# EAGLE library part 8 (library con)
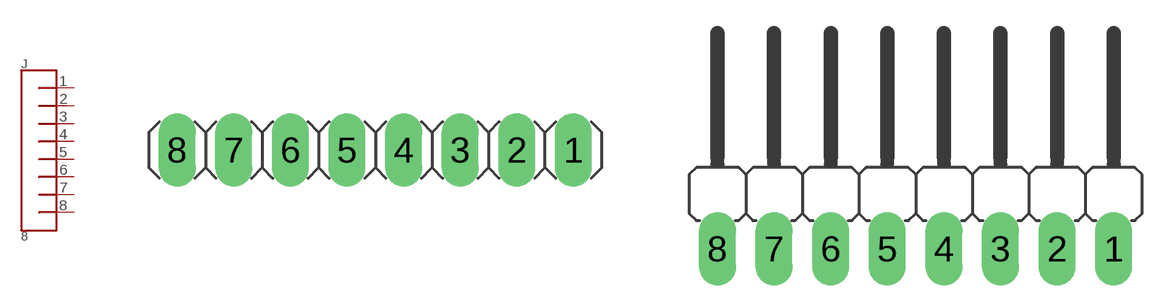
[diagram p1: symbol with the pads of CV8; footprints CV8, CV8W]

Designator prefix J

## 8-CV  [CV8]
1  1
2  2
3  3
4  4
5  5
6  6
7  7
8  8

## 8-CVW  [CV8W]
Pads as for CV8

## 8-CV_X2  [CV4X2]
Pads as for CV8

## Footprint CV8 (pad centres in mm)
drill 1.1 long: 1 8.89,0; 2 6.35,0; 3 3.81,0; 4 1.27,0; 5 -1.27,0; 6 -3.81,0; 7 -6.35,0; 8 -8.89,0

## Footprint CV8W (pad centres in mm)
drill 1.1 long: 1 8.89,0; 2 6.35,0; 3 3.81,0; 4 1.27,0; 5 -1.27,0; 6 -3.81,0; 7 -6.35,0; 8 -8.89,0

## Footprint CV4X2 (pad centres in mm)
drill 1.1 square: 1 3.81,1.27
drill 1.1 octagon: 2 3.81,-1.27; 3 1.27,1.27; 4 1.27,-1.27; 5 -1.27,1.27; 6 -1.27,-1.27; 7 -3.81,1.27; 8 -3.81,-1.27